# EAGLE library part EXPANSION_BORAD_2 (library IoTMakers)
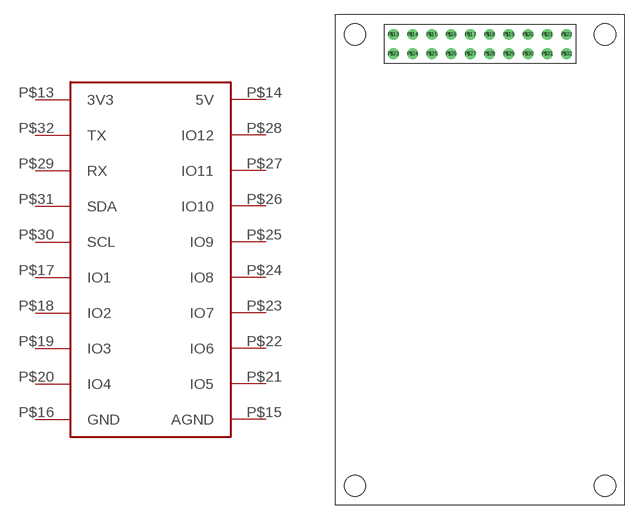
[diagram p23: symbol with the pads of EXPANSION_BARD_2; footprint EXPANSION_BARD_2]

Designator prefix -

## EXPANSION_BORAD_2  [EXPANSION_BARD_2]
P$13  3V3
P$14  5V
P$15  AGND
P$16  GND
P$17  IO1
P$18  IO2
P$19  IO3
P$20  IO4
P$21  IO5
P$22  IO6
P$23  IO7
P$24  IO8
P$25  IO9
P$26  IO10
P$27  IO11
P$28  IO12
P$29  RX
P$30  SCL
P$31  SDA
P$32  TX

## Footprint EXPANSION_BARD_2 (pad centres in mm)
drill 0.6: P$13 6,48.922; P$14 8,48.922; P$15 10,48.922; P$16 12,48.922; P$17 14,48.922; P$18 16,48.922; P$19 18,48.922; P$20 20,48.922; P$21 22,48.922; P$22 24,48.922; P$23 6,46.922; P$24 8,46.922; P$25 10,46.922; P$26 12,46.922; P$27 14,46.922; P$28 16,46.922; P$29 18,46.922; P$30 20,46.922; P$31 22,46.922; P$32 24,46.922
hole 2.2 at 2,48.922
hole 2.2 at 28,48.922
hole 2.2 at 2,2
hole 2.2 at 28,2
hole 2.2 at 2,48.922